# EAGLE library part CD74HC4050E (library IAS_v006)
Non-inverting hex buffer.
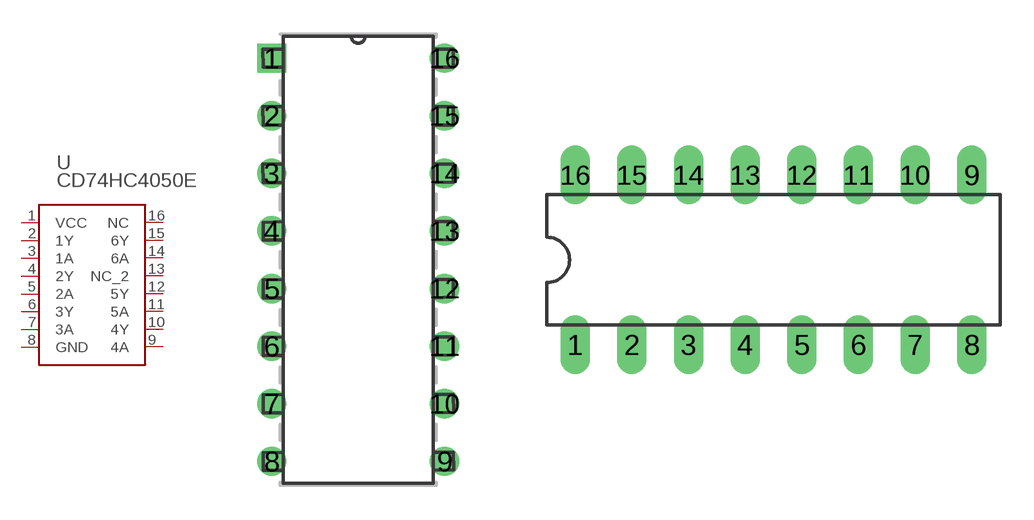
[diagram p2: symbol with the pads of N16; footprints N16, DIL16]

Designator prefix -

## CD74HC4050E (COPYRIGHT: Copyright (C) 2015 Accelerated Designs. All rights reserved; FAMILY: Buffer and Line Driver; MANUFACTURER_NAME: Texas Instruments; MANUFACTURER_PART_NUMBER: CD74HC4050EE4; RSPARTNUMBER: 7092573; SECTION: Standard and Speciality Logic; VENDOR: Texas Instruments)  [N16]
1  VCC  pas
2  1Y  out
3  1A  in
4  2Y  out
5  2A  in
6  3Y  out
7  3A  in
8  GND  pas
9  4A  in
10  4Y  out
11  5A  in
12  5Y  out
13  NC_2  nc
14  6A  in
15  6Y  out
16  NC  nc

## CD74HC4050EDIL16 (COPYRIGHT: Copyright (C) 2015 Accelerated Designs. All rights reserved; FAMILY: Buffer and Line Driver; MANUFACTURER_NAME: Texas Instruments; MANUFACTURER_PART_NUMBER: CD74HC4050EE4; RSPARTNUMBER: 7092573; SECTION: Standard and Speciality Logic; VENDOR: Texas Instruments)  [DIL16]
Pads as for N16

## Footprint N16 (pad centres in mm)
drill 0.787 pad 1.295 square: 1 -7.62,17.78
drill 0.787 pad 1.295: 2 -7.62,15.24; 3 -7.62,12.7; 4 -7.62,10.16; 5 -7.62,7.62; 6 -7.62,5.08; 7 -7.62,2.54; 8 -7.62,0; 9 0,0; 10 0,2.54; 11 0,5.08; 12 0,7.62; 13 0,10.16; 14 0,12.7; 15 0,15.24; 16 0,17.78

## Footprint DIL16 (pad centres in mm)
Dual In Line Package
drill 0.813 long: 1 -8.89,-3.81; 2 -6.35,-3.81; 3 -3.81,-3.81; 4 -1.27,-3.81; 5 1.27,-3.81; 6 3.81,-3.81; 7 6.35,-3.81; 8 8.89,-3.81; 9 8.89,3.81; 10 6.35,3.81; 11 3.81,3.81; 12 1.27,3.81; 13 -1.27,3.81; 14 -3.81,3.81; 15 -6.35,3.81; 16 -8.89,3.81